# EAGLE library part TRANSFORMER_2+M/2+M (library Cynara-Passives)
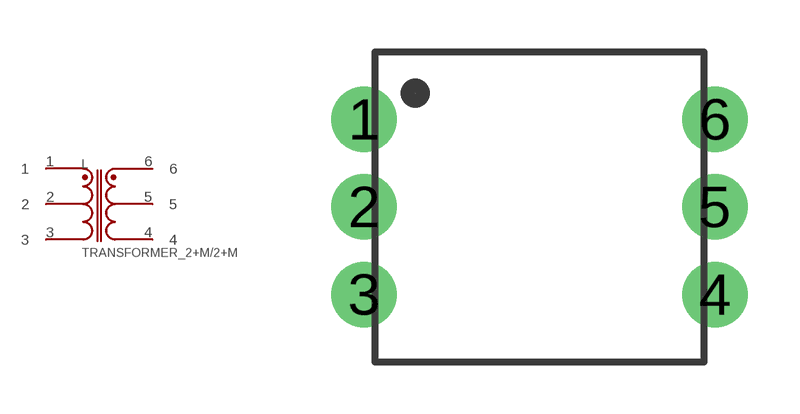
[diagram p1: symbol with the pads of MURATA_78615/2C; footprint MURATA_78615/2C]

Designator prefix L

## TRANSFORMER_2+M/2+M (MANUFACTURER: Murata; MANUFACTURERPARTNO: 78615/2C; VALUE: transformer)  [MURATA_78615/2C]
1  1
2  2
3  3
4  4
5  5
6  6

## Footprint MURATA_78615/2C (pad centres in mm)
drill 1.2 pad 1.9: 1 -5.08,2.54; 2 -5.08,0; 3 -5.08,-2.54; 4 5.08,-2.54; 5 5.08,0; 6 5.08,2.54